# EAGLE library part RELAY_BOARD (library MBLIB)
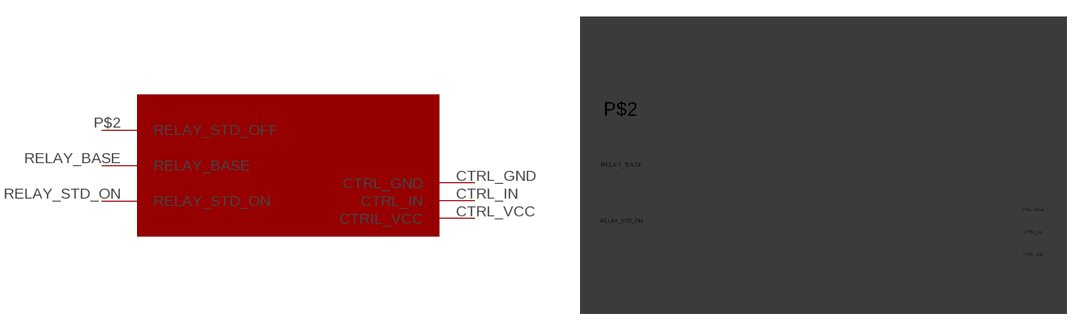
[diagram p0: symbol with the pads of RELAY_BOARD; footprint RELAY_BOARD]

Designator prefix -

## RELAY_BOARD  [RELAY_BOARD]
CTRL_GND  CTRL_GND
CTRL_IN  CTRL_IN
CTRL_VCC  CTRIL_VCC
P$2  RELAY_STD_OFF
RELAY_BASE  RELAY_BASE
RELAY_STD_ON  RELAY_STD_ON

## Footprint RELAY_BOARD (pad centres in mm)
drill 1 pad 1.5 square: CTRL_GND 40.5,9.3; CTRL_IN 40.5,7.3; CTRL_VCC 40.5,5.3
drill 1 pad 3 square: P$2 3.6,18.3; RELAY_BASE 3.7,13.3; RELAY_STD_ON 3.7,8.3